# EAGLE library part WE-RJ45_7499110124 (library 7499511611A_Eagle_WE-RJ45_rev20a)
WE-RJ45 LAN Transformer Characteristics RJ45 Connector with integrated transformer / common mode choke Power over Ethernet up to 50 Watt and speeds up to 10 Gbit/s Available in SMD, THT and THT with USB Compliant with standards: IEEE 802.3u, IEEE 802.3ab, IEEE 802.3af, IEEE 802.3at, IEEE 802.3an and upcoming IEE 802.3bt Applications Suitable for industrial temperatures from –40 °C up to +85 °C Compatible to Industrial Ethernet systems like EtherCAT or Profinet Compliant with most IC’s for Ethernet applications such as Microchip, Texas Instruments, Broadcom, Linear Technology Hubs, Routers, Switches, IP cameras, IoT applications <https://katalog.we-online.com/media/images/v2/o35731v209%20Family_WE-RJ45-LAN.jpg> Details see: https://katalog.we-online.com/en/pbs/WE-LAN-RJ45 Updated by Ella Wu 2019-08-05 2019 (C) Wurth Elektronik
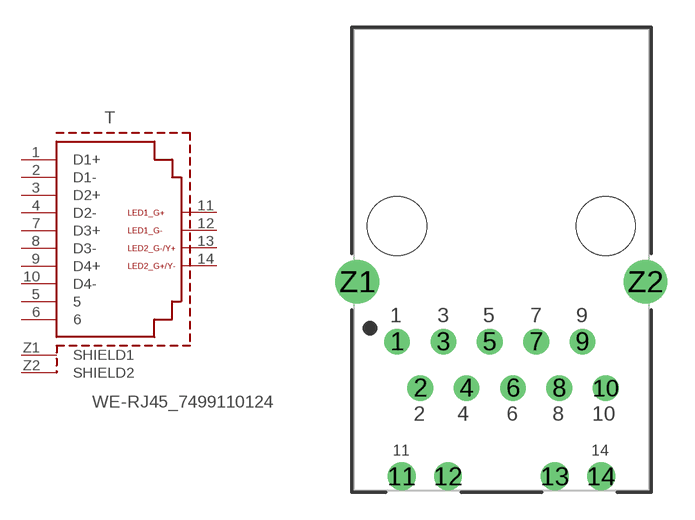
[diagram p19: symbol with the pads of 7499110124; footprint 7499110124]

Designator prefix T

## WE-RJ45_7499110124 (DATA-RATE: 10/100/1000 Base-T; DATASHEET-URL: https://www.we-online.com/catalog/datasheet/7499110124.pdf; LED: green-yellow/green; MOUNT: THT; PART-NUMBER: 7499110124; POE: non-PoE; PORTS: 1; USB: No)  [7499110124]
1  D1+
2  D1-
3  D2+
4  D2-
5  5
6  6
7  D3+
8  D3-
9  D4+
10  D4-
11  LED1_G+
12  LED1_G-
13  LED2_G-/Y+
14  LED2_G+/Y-
Z1  SHIELD1  pwr
Z2  SHIELD2  pwr

## Footprint 7499110124 (pad centres in mm)
WE-RJ45 LAN Transformer 10/100/1000 Base-T
drill 0.9: 1 -5.715,-6.35; 2 -4.445,-8.89; 3 -3.175,-6.35; 4 -1.905,-8.89; 5 -0.635,-6.35; 6 0.635,-8.89; 7 1.905,-6.35; 8 3.175,-8.89; 9 4.445,-6.35; 10 5.715,-8.89
drill 1.02: 11 -5.465,-13.72; 12 -2.925,-13.72; 13 2.925,-13.72; 14 5.465,-13.72
drill 1.6: Z1 -7.9,-3.05; Z2 7.9,-3.05
hole 3.25 at 5.715,0
hole 3.25 at -5.715,0